# Altium schematic symbol library Tracker_SoM.SchLib: 1 symbol
Pins are listed as number, name and electrical type; pins without a type are passive.

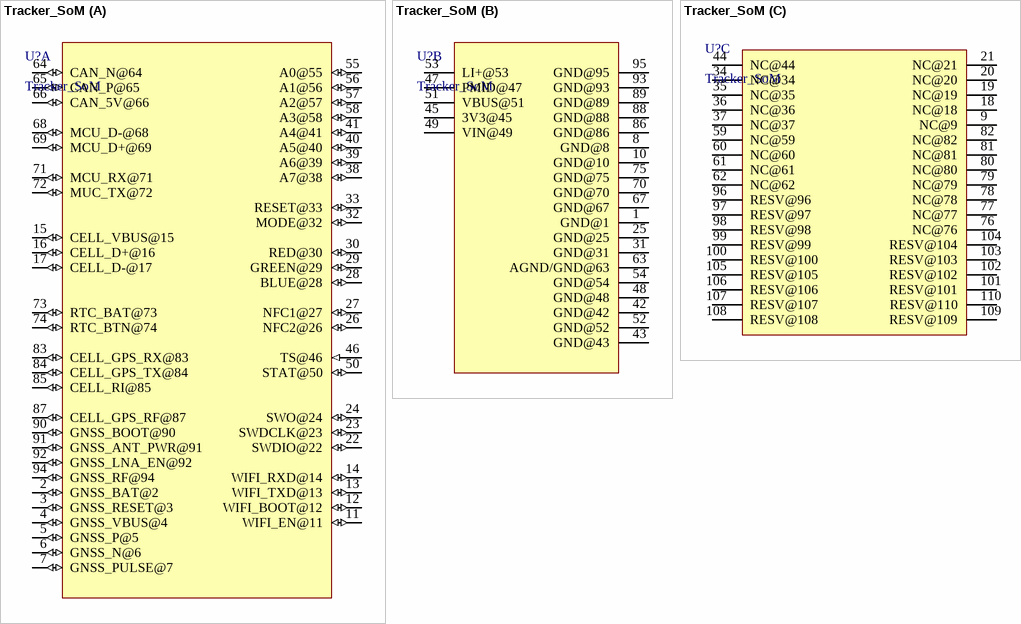
[diagram p0: symbol Tracker_SoM]

## Tracker_SoM
designator U?
Value: Tracker_SoM
part A pins: 2 GNSS_BAT@2 (io), 3 GNSS_RESET@3 (io), 4 GNSS_VBUS@4 (io), 5 GNSS_P@5 (io), 6 GNSS_N@6 (io), 7 GNSS_PULSE@7 (io), 11 WIFI_EN@11 (io), 12 WIFI_BOOT@12 (io), 13 WIFI_TXD@13 (io), 14 WIFI_RXD@14 (io), 15 CELL_VBUS@15 (io), 16 CELL_D+@16 (io), 17 CELL_D-@17 (io), 22 SWDIO@22 (io), 23 SWDCLK@23 (io), 24 SWO@24 (io), 26 NFC2@26 (io), 27 NFC1@27 (io), 28 BLUE@28 (io), 29 GREEN@29 (io), 30 RED@30 (io), 32 MODE@32 (io), 33 RESET@33 (io), 38 A7@38 (io), 39 A6@39 (io), 40 A5@40 (io), 41 A4@41 (io), 46 TS@46 (in), 50 STAT@50 (io), 55 A0@55 (io), 56 A1@56 (io), 57 A2@57 (io), 58 A3@58 (io), 64 CAN_N@64 (io), 65 CAN_P@65 (io), 66 CAN_5V@66 (io), 68 MCU_D-@68 (io), 69 MCU_D+@69 (io), 71 MCU_RX@71 (io), 72 MUC_TX@72 (io), 73 RTC_BAT@73 (io), 74 RTC_BTN@74 (io), 83 CELL_GPS_RX@83 (io), 84 CELL_GPS_TX@84 (io), 85 CELL_RI@85 (io), 87 CELL_GPS_RF@87 (io), 90 GNSS_BOOT@90 (io), 91 GNSS_ANT_PWR@91 (io), 92 GNSS_LNA_EN@92 (io), 94 GNSS_RF@94 (io)
part B pins: 1 GND@1 (power), 8 GND@8 (power), 10 GND@10 (power), 25 GND@25 (power), 31 GND@31 (power), 42 GND@42 (power), 43 GND@43 (power), 45 3V3@45 (power), 47 PMID@47 (power), 48 GND@48 (power), 49 VIN@49 (power), 51 VBUS@51 (power), 52 GND@52 (power), 53 LI+@53 (power), 54 GND@54 (power), 63 AGND/GND@63 (power), 67 GND@67 (power), 70 GND@70 (power), 75 GND@75 (power), 86 GND@86 (power), 88 GND@88 (power), 89 GND@89 (power), 93 GND@93 (power), 95 GND@95 (power)
part C pins: 9 NC@9, 18 NC@18, 19 NC@19, 20 NC@20, 21 NC@21, 34 NC@34, 35 NC@35, 36 NC@36, 37 NC@37, 44 NC@44, 59 NC@59, 60 NC@60, 61 NC@61, 62 NC@62, 76 NC@76, 77 NC@77, 78 NC@78, 79 NC@79, 80 NC@80, 81 NC@81, 82 NC@82, 96 RESV@96, 97 RESV@97, 98 RESV@98, 99 RESV@99, 100 RESV@100, 101 RESV@101, 102 RESV@102, 103 RESV@103, 104 RESV@104, 105 RESV@105, 106 RESV@106, 107 RESV@107, 108 RESV@108, 109 RESV@109, 110 RESV@110